# EAGLE library part SE555Q (library 6502-shield)
SE555Q Timer IC (555)
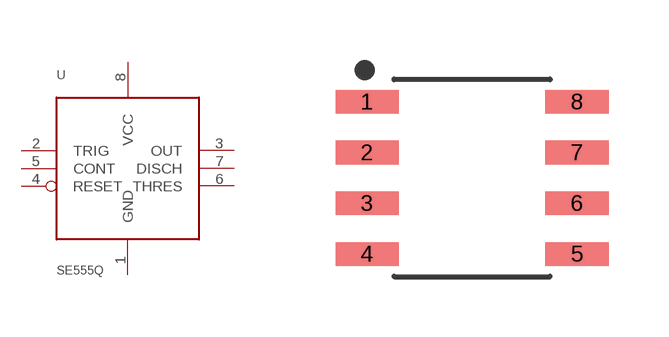
[diagram p2: symbol with the pads of SOIC127P600X150-8N; footprint SOIC127P600X150-8N]

Designator prefix U

## SE555QS  [SOIC127P600X150-8N]
1  GND
2  TRIG
3  OUT
4  RESET
5  CONT
6  THRES
7  DISCH
8  VCC

## Footprint SOIC127P600X150-8N (pad centres in mm)
8-SOIC, 1.27 mm pitch, 6.00 mm span, 4.90 X 3.85 X 1.50 mm body 8-pin SOIC package with 1.27 mm pitch, 6.00 mm span with body size 4.90 X 3.85 X 1.50 mm
smd 1.58 x 0.589: 1 -2.625,1.905; 2 -2.625,0.635; 3 -2.625,-0.635; 4 -2.625,-1.905; 5 2.625,-1.905; 6 2.625,-0.635; 7 2.625,0.635; 8 2.625,1.905